# Altium integrated library Logic.IntLib: 3 symbols
Pins are listed as number, name and electrical type; pins without a type are passive.

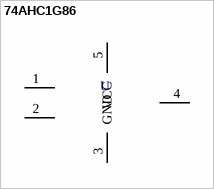
[diagram p0: symbol 74AHC1G86]

## 74AHC1G86
designator U  (value not drawn)
1CH 2IN XOR; Supplier 1: Digikey; Supplier Part Number 1: 74AHC1G86SE-7DICT-ND
footprint SOT65P210X110-5N (SOT23, 5-Leads, Body 2.00x2.10mm, Pitch 0.65mm, IPC Medium Density)
pins: 1, 2, 3 GND, 4, 5 VCC


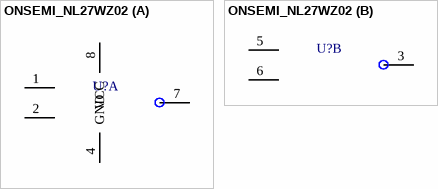
[diagram p1: symbol ONSEMI_NL27WZ02]

## ONSEMI_NL27WZ02
designator U?  (value not drawn)
2CH 2IN NOR; Supplier 1: Digikey; Supplier Part Number 1: NL27WZ02USGOSDKR-ND
footprint TSSOP50P310X90-8N (TSSOP, 8-Leads, Body 2.00x2.30mm, Pitch 0.50mm, IPC Medium Density)
part A pins: 1, 2, 4 GND, 7, 8 VCC
part B pins: 3, 5, 6


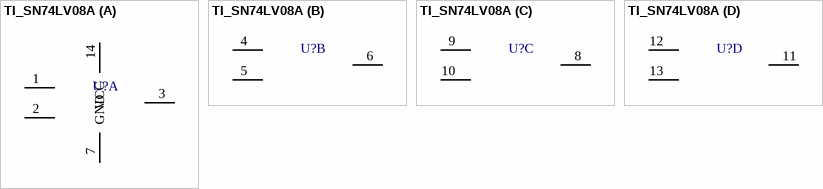
[diagram p2: symbol TI_SN74LV08A]

## TI_SN74LV08A
designator U?  (value not drawn)
AND GATE 4CH 2IN SOIC14; Supplier 1: Digikey; Supplier Part Number 1: 296-26531-6-ND
footprint SOIC127P600X175-14N (SOIC, 14-Leads, Body 8.65x3.90mm, Pitch 1.27mm, IPC Medium Density)
part A pins: 1, 2, 3, 7 GND, 14 VCC
part B pins: 4, 5, 6
part C pins: 8, 9, 10
part D pins: 11, 12, 13